# Altium schematic symbol library Radar_FMCW.SchLib: 6 symbols
Pins are listed as number, name and electrical type; pins without a type are passive.

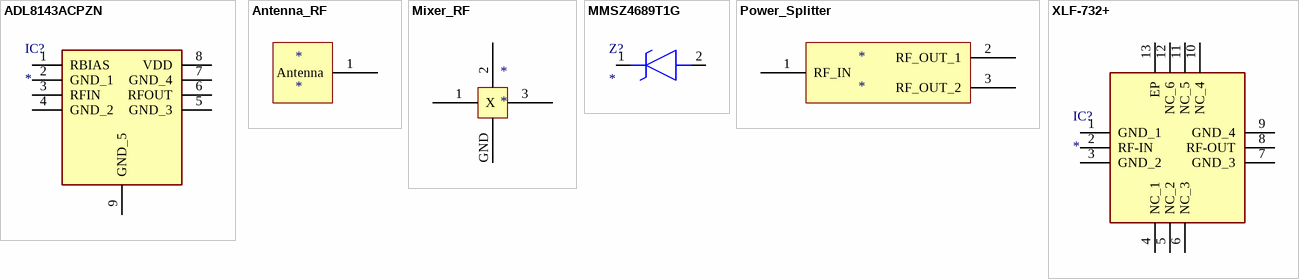
[diagram p0: symbols ADL8143ACPZN to XLF-732+]

## ADL8143ACPZN
designator IC?
Integrated Circuit; Manufacturer_Name: Analog Devices; Manufacturer_Part_Number: ADL8143ACPZN; Datasheet Link: https://www.analog.com/ADL8143/datasheet; Height: 0.9mm
pins: 1 RBIAS, 2 GND_1, 3 RFIN, 4 GND_2, 5 GND_3, 6 RFOUT, 7 GND_4, 8 VDD, 9 GND_5

## Antenna_RF
designator *
footprint Antenna_10GHz
pins: 1 Antenna

## Mixer_RF
designator *
footprint Mixer_RF
pins: 1 X, 2, 3, GND

## MMSZ4689T1G
designator Z?
Zener Diode; Manufacturer_Name: onsemi; Manufacturer_Part_Number: MMSZ4689T1G; Datasheet Link: http://www.onsemi.com/pub/Collateral/MMSZ4678T1-D.PDF; Height: 1.35mm; Mouser Part Number: 863-MMSZ4689T1G; Mouser Price/Stock: https://www.mouser.co.uk/ProductDetail/onsemi/MMSZ4689T1G?qs=P4IOph%252Bbot%252Blaz%2FZtdyBaA%3D%3D; Arrow Part Number: MMSZ4689T1G; Arrow Price/Stock: https://www.arrow.com/en/products/mmsz4689t1g/on-semiconductor?region=nac
footprint SOD3716X135N
pins: 1 K, 2 A

## Power_Splitter
designator *
footprint Power_Splitter
pins: 1 RF_IN, 2 RF_OUT_1, 3 RF_OUT_2

## XLF-732+
designator IC?
Integrated Circuit; Manufacturer_Name: Mini-Circuits; Manufacturer_Part_Number: XLF-732+; Datasheet Link: https://www.minicircuits.com/WebStore/dashboardPdf?model=XLF-732%2B; Height: 0.89mm; Mouser Part Number: 139-XLF-732; Mouser Price/Stock: https://www.mouser.co.uk/ProductDetail/Mini-Circuits/XLF-732%2b?qs=xZ%2FP%252Ba9zWqZ1H%2Fab09yzWw%3D%3D
footprint QFN51P300X300X89-13N (Footprint not found)
footprint QFN51P300X300X89-13N
pins: 1 GND_1, 2 RF-IN, 3 GND_2, 4 NC_1, 5 NC_2, 6 NC_3, 7 GND_3, 8 RF-OUT, 9 GND_4, 10 NC_4, 11 NC_5, 12 NC_6, 13 EP